# EAGLE library part LT1167CS8-1#PBF (library LT1167CS8-1#PBF)
Instrumentation Amplifiers Programmable Prec Inst Amp Source: Datasheet <https://www.google.com/url?sa=t&rct=j&q=&esrc=s&source=web&cd=&ved=2ahUKEwiX6oGy_cT2AhUFLBoKHaJ4BkkQFnoECDYQAQ&url=https://www.analog.com/media/en/technical-documentation/data-sheets/1167fc.pdf&usg=AOvVaw1x3jvf2OheYgevULB3qLIN>
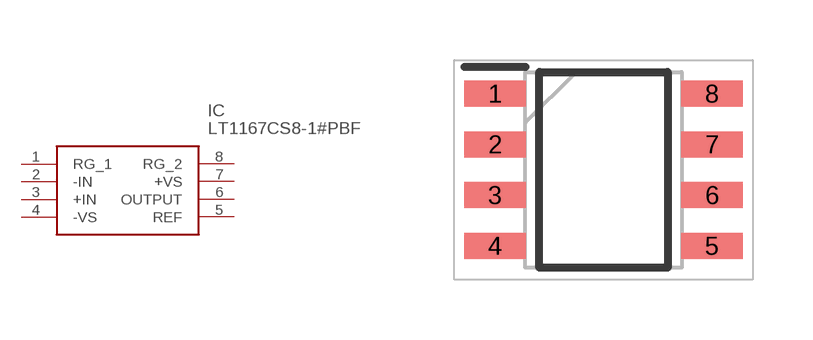
[diagram p0: symbol with the pads of SOIC127P599X175-8N; footprint SOIC127P599X175-8N]

Designator prefix IC

## LT1167CS8-1#PBF (Description: Instrumentation Amplifiers Programmable Prec Inst Amp; Height: 1.752mm; Manufacturer_Name: Analog Devices; Manufacturer_Part_Number: LT1167CS8-1#PBF; Mouser_Part_Number: 584-LT1167CS8-1#PBF; Mouser_Price-Stock: https://www.mouser.co.uk/ProductDetail/Analog-Devices/LT1167CS8-1PBF?qs=ytflclh7QUUSP%2FOhUQ1QDg%3D%3D)  [SOIC127P599X175-8N]
1  RG_1
2  -IN
3  +IN
4  -VS
5  REF
6  OUTPUT
7  +VS
8  RG_2

## Footprint SOIC127P599X175-8N (pad centres in mm)
8-LEAD PLASTIC SO
smd 1.526 x 0.65: 1 -2.712,1.905; 2 -2.712,0.635; 3 -2.712,-0.635; 4 -2.712,-1.905; 5 2.712,-1.905; 6 2.712,-0.635; 7 2.712,0.635; 8 2.712,1.905